# Altium footprint library PcbLibv0.5.PcbLib: 21 footprints (part 1 of 2)
Each footprint in its own frame and in the unit in brackets; x right, y up, seen from the top. Pads: shape width x height; smd on the part's side, far side on the other; paste and mask are expansions set on the pad; w line width, h text height; cw(c..) or ccw(c..) is an arc to the next point about the centre after c.
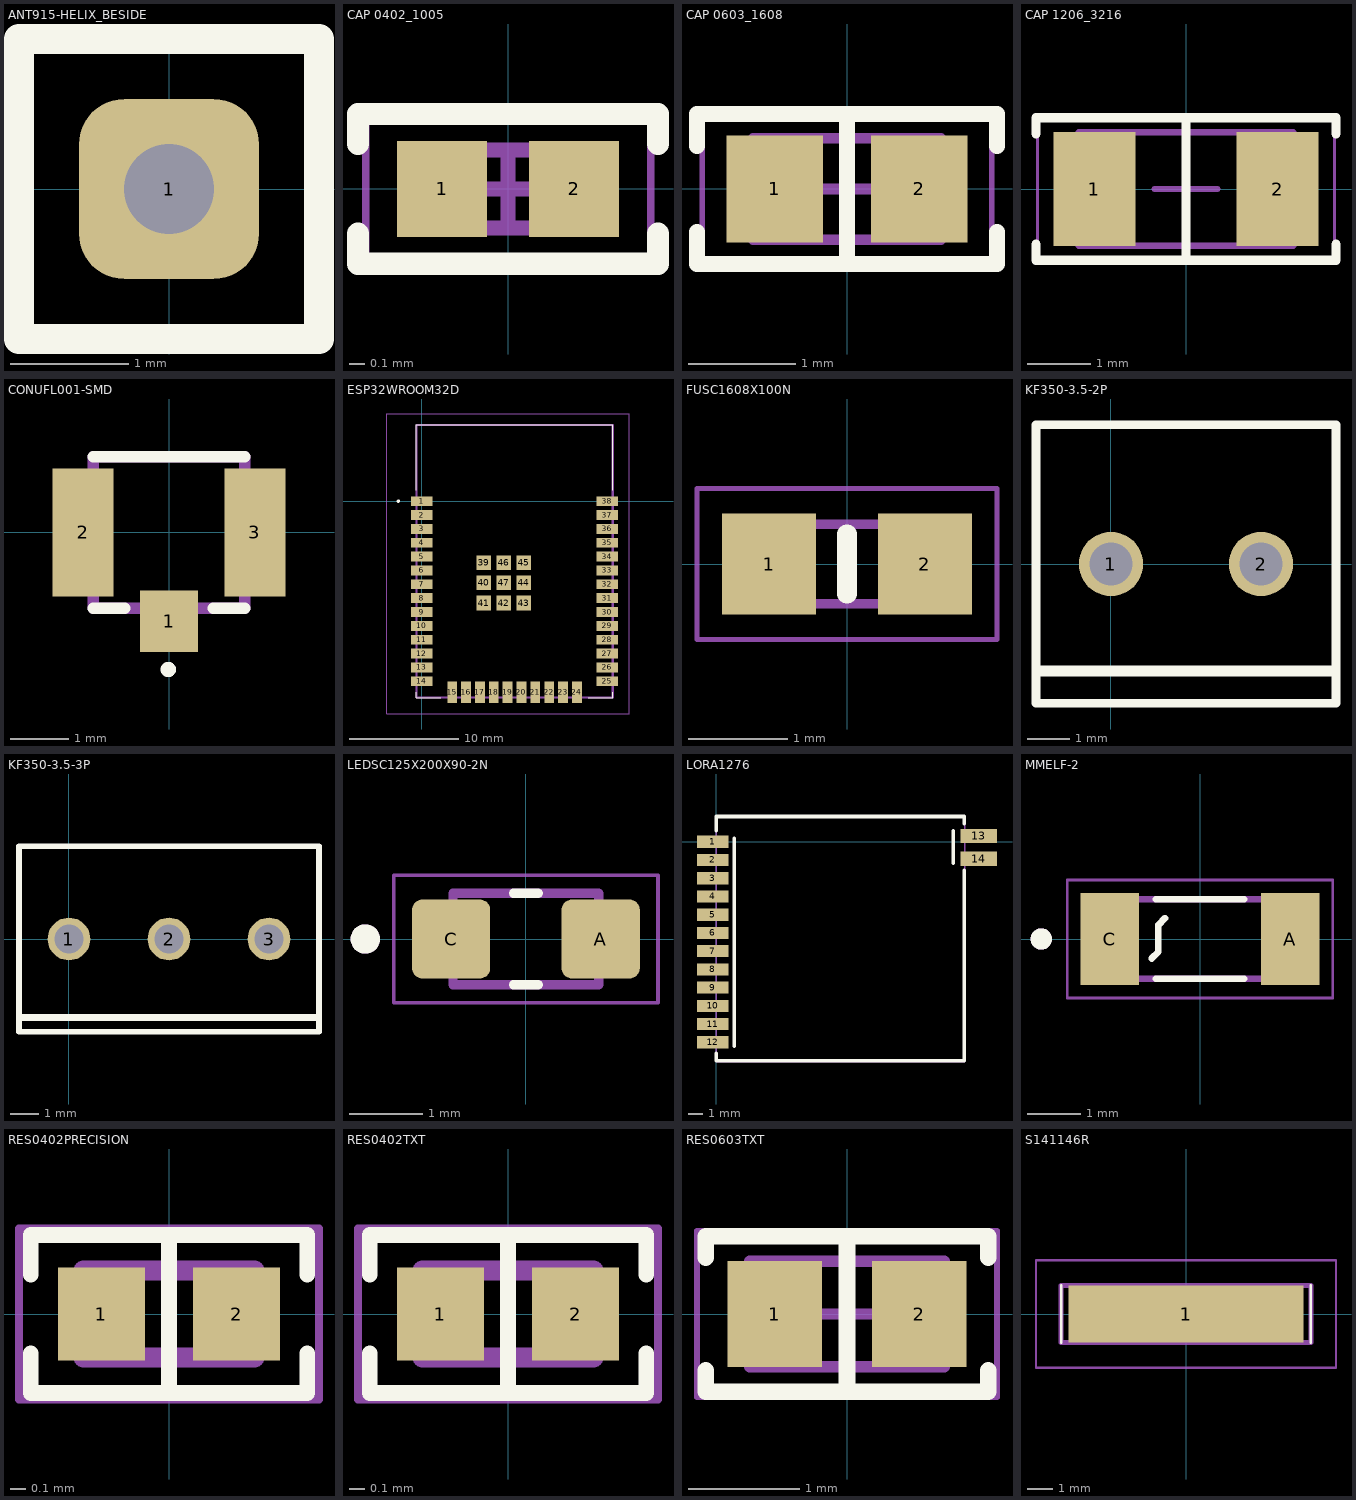
[diagram p0: the footprints below, top view; thin cyan lines are the x and y axes]

## ANT915-HELIX_BESIDE [mil] "Antena Helicoidal 915 MHz LoRa De Lado"
pads (1):
  rrect50% 60x60 hole 30: 1(0,0)
Top Overlay:
  lines w10: -50,-50 -50,50 50,50 50,-50 -50,-50
3D body "User Library-SW868-TH13.STEP": height 265.75, standoff -64.96, extent -163.02,-16 85.01,704.47

## CAP 0402_1005 [mm] "Chip Capacitor, 2-Leads, Body 1.02x0.51mm, IPC Medium Density"
height 0.52
pads (2):
  rect 0.6x0.64 smd: 1(-0.44,0) 2(0.44,0)
Top Overlay:
  lines w0.15: -1,-0.3 -1,-0.5 1,-0.5 1,-0.3 ; -1,0.3 -1,0.5 1,0.5 1,0.3
Mechanical 13:
  lines w0.1: -0.515,-0.26 0.515,-0.26 0.515,0.26 -0.515,0.26 -0.515,-0.26
Mechanical 15:
  lines w0.05: -0.95,-0.5 0.95,-0.5 0.95,0.5 -0.95,0.5 -0.95,-0.5
  lines w0.1: -0.26,0 0.26,0 ; 0,-0.26 0,0.26
3D body "Ceramic_Capacitor_0402_h20mil.step": height 0.49, standoff -0.02, extent -0.508,-0.254 0.508,0.254

## CAP 0603_1608 [mm] "Chip Capacitor, 2-Leads, Body 1.60x0.80mm, IPC Medium Density"
height 0.89
pads (2):
  rect 0.9x1 smd: 1(-0.675,0) 2(0.675,0)
Top Overlay:
  lines w0.15: -1.4,-0.4 -1.4,-0.7 1.4,-0.7 1.4,-0.4 ; -1.4,0.4 -1.4,0.7 1.4,0.7 1.4,0.4 ; 0,-0.7 0,0.7
Mechanical 13:
  lines w0.1: -0.875,-0.475 -0.875,0.475 0.875,0.475 0.875,-0.475 -0.875,-0.475
Mechanical 15:
  lines w0.05: -1.35,-0.75 -1.35,0.75 1.35,0.75 1.35,-0.75 -1.35,-0.75
  lines w0.1: -0.475,0 0.475,0 ; 0,-0.475 0,0.475
3D body "Ceramic_Capacitor_0603_h32mil.step": height 0.78, standoff -0.02, extent -0.8,-0.4 0.8,0.4

## CAP 1206_3216 [mm] "Chip Capacitor, 2-Leads, Body 3.25x1.60mm, IPC Medium Density"
height 1.6
pads (2):
  rect 1.3x1.8 smd: 1(-1.45,0) 2(1.45,0)
Top Overlay:
  lines w0.15: -2.375,-0.875 -2.375,-1.125 2.375,-1.125 2.375,-0.875 ; -2.375,0.875 -2.375,1.125 2.375,1.125 2.375,0.875 ; 0,-1.125 0,1.125
Mechanical 13:
  lines w0.1: -1.7,-0.9 -1.7,0.9 1.7,0.9 1.7,-0.9 -1.7,-0.9
Mechanical 15:
  lines w0.05: -2.35,-1.15 -2.35,1.15 2.35,1.15 2.35,-1.15 -2.35,-1.15
  lines w0.1: -0.5,0 0.5,0 ; 0,-0.5 0,0.5
3D body "Ceramic_Capacitor_1206_h63mil.step": height 1.61, standoff 0.01, extent -1.6,-0.8 1.6,0.8

## CONUFL001-SMD [mm]
pads (3):
  rect 1x1.05 smd: 1(0,-1.525)
  rect 1.05x2.2 smd: 2(-1.475,0) 3(1.475,0)
Top Overlay:
  circle w0.2: c-0.013,-2.353 r0.031
  lines w0.2: -1.3,-1.3 -0.761,-1.3 ; -1.3,1.3 1.3,1.3 ; 0.761,-1.3 1.3,-1.3
Mechanical 13:
  lines w0.2: -1.3,-1.3 -1.3,1.3 1.3,1.3 1.3,-1.3 -1.3,-1.3
3D body "CONUFL001-SMD-T.stp": height 1.25, standoff 0, extent -1.499,-1.505 1.499,1.594

## ESP32WROOM32D [mm]
pads (47):
  rect 2x0.9 smd: 1(0,0.01) 2(0,-1.26) 3(0,-2.53) 4(0,-3.8) 5(0,-5.07) 6(0,-6.34) 7(0,-7.61) 8(0,-8.88) 9(0,-10.15) 10(0,-11.42) 11(0,-12.69) 12(0,-13.96) 13(0,-15.23) 14(0,-16.5) 25(17,-16.5) 26(17,-15.23) 27(17,-13.96) 28(17,-12.69) 29(17,-11.42) 30(17,-10.15) 31(17,-8.88) 32(17,-7.61) 33(17,-6.34) 34(17,-5.07) 35(17,-3.8) 36(17,-2.53) 37(17,-1.26) 38(17,0.01)
  rect 0.9x2 smd: 15(2.785,-17.5) 16(4.055,-17.5) 17(5.325,-17.5) 18(6.595,-17.5) 19(7.865,-17.5) 20(9.135,-17.5) 21(10.405,-17.5) 22(11.675,-17.5) 23(12.945,-17.5) 24(14.215,-17.5)
  rect 1.33x1.33 smd: 39(5.665,-5.655) 40(5.665,-7.49) 41(5.665,-9.325) 42(7.5,-9.325) 43(9.335,-9.325) 44(9.335,-7.49) 45(9.335,-5.655) 46(7.5,-5.655) 47(7.5,-7.49)
Top Overlay:
  lines w0.1: -0.5,-17.5 -0.5,-18 1.75,-18 ; -0.5,1 -0.5,7 17.5,7 17.5,1 ; 15.25,-18 17.5,-18 17.5,-17.5
  lines w0.102: -0.5,-17.5 -0.5,-18 1.75,-18 ; -0.5,1 -0.5,7 17.5,7 17.5,1 ; 15.25,-18 17.5,-18 17.5,-17.5
  lines w0.2: -2.2,0.01 ccw(c-2.15,0.01) -2.1,0.01 ; -2.2,0.01 cw(c-2.15,0.01) -2.1,0.01 ; -2.2,0.01 ccw(c-2.15,0.01) -2.1,0.01
Mechanical 13:
  lines w0.2: -0.5,-18 17.5,-18 17.5,7 -0.5,7 -0.5,-18
Mechanical 15:
  lines w0.1: -3.2,-19.5 19,-19.5 19,8 -3.2,8 -3.2,-19.5
3D body "ESP32-WROOM-32D__4MB_.stp": height 3.1, standoff 0, extent -0.52,-18.01 17.48,7.49

## FUSC1608X100N [mm]
pads (2):
  rect 0.95x1.02 smd: 1(-0.785,0) 2(0.785,0)
Top Overlay:
  lines w0.2: 0,-0.3 0,0.3
Mechanical 13:
  lines w0.1: -0.8,-0.4 0.8,-0.4 0.8,0.4 -0.8,0.4 -0.8,-0.4
Mechanical 15:
  lines w0.05: -1.51,-0.76 1.51,-0.76 1.51,0.76 -1.51,0.76 -1.51,-0.76
3D body "SMD0603B010TF.stp": height 1, standoff 0, extent -0.8,-0.4 0.8,0.4

## KF350-3.5-2P [mm]
pads (2):
  round 1.5 hole 1: 1(0,0) 2(3.5,0)
Top Overlay:
  lines w0.2: -1.75,-3.25 -1.75,3.25 5.25,3.25 5.25,-3.25 -1.75,-3.25
  lines w0.254: -1.7,-2.5 5.2,-2.5
Mechanical 13:
  lines w0.1: -1.75,-3.25 5.25,-3.25 5.25,3.25 -1.75,3.25 -1.75,-3.25
Mechanical 15:
  lines w0.1: -1.75,-3.25 5.25,-3.25 5.25,3.25 -1.75,3.25 -1.75,-3.25
3D body "DG350-3.5-02P-12-00AH.STEP": height 8.4, standoff -3.5, extent -2.3,-3.4 5.7,3.4

## KF350-3.5-3P [mm]
pads (3):
  round 1.5 hole 1: 1(0,0) 2(3.5,0) 3(7,0)
Top Overlay:
  lines w0.2: -1.75,-3.25 -1.75,3.25 8.75,3.25 8.75,-3.25 -1.75,-3.25
  lines w0.254: -1.6,-2.75 8.7,-2.75
Mechanical 13:
  lines w0.1: -1.75,-3.25 8.75,-3.25 8.75,3.25 -1.75,3.25 -1.75,-3.25
Mechanical 15:
  lines w0.1: -1.75,-3.25 8.75,-3.25 8.75,3.25 -1.75,3.25 -1.75,-3.25
3D body "DG350-3.5-03P-12-00AH.STEP": height 8.4, standoff -3.5, extent -2.2,-3.4 9.3,3.4

## LEDSC125X200X90-2N [mm]
pads (2):
  rrect25% 1.07x1.08 smd: A(1.025,0) C(-1.025,0)
Top Overlay:
  circle w0.2: c-2.2,0 r0.1
  lines w0.127: -0.17,-0.625 0.17,-0.625 ; -0.17,0.625 0.17,0.625
Mechanical 13:
  circle w0.2: c-2.2,0 r0.1
  lines w0.127: -1,-0.625 -1,0.625 1,0.625 1,-0.625 -1,-0.625
Mechanical 15:
  lines w0.05: -1.81,-0.875 1.81,-0.875 1.81,0.875 -1.81,0.875 -1.81,-0.875
3D body "599-0110-007F.STEP": height 0.7, standoff 0, extent -1,-0.625 1,0.625

## LORA1276 [mil]
pads (14):
  rect 86x33.46 smd: 1(-10,0) 2(-10,-50) 3(-10,-100) 4(-10,-150) 5(-10,-200) 6(-10,-250) 7(-10,-300) 8(-10,-350) 9(-10,-400) 10(-10,-450) 11(-10,-500) 12(-10,-550)
  rect 100x39.37 smd: 13(719.29,15.75) 14(719.29,-47.24)
Top Overlay:
  lines w10: 0,-580.71 0,-600.39 679.13,-600.39 679.13,-78.74 ; 0,29.53 0,68.9 679.13,68.9 679.13,49.21 ; 49.21,-561.02 49.21,9.84 ; 649.61,-59.06 649.61,29.53
Mechanical 7:
  lines w5: 0,-602.36 0,66.93 681.1,66.93 681.1,-602.36 0,-602.36

## MMELF-2 [mm]
pads (2):
  rect 1.11x1.73 smd: A(1.705,0) C(-1.705,0)
Top Overlay:
  circle w0.2: c-3,0 r0.1
  lines w0.127: -0.914,-0.368 -0.787,-0.241 -0.787,0.14 -0.787,0.267 -0.66,0.394 ; -0.83,-0.75 0.83,-0.75 ; -0.83,0.75 0.83,0.75
Mechanical 13:
  circle w0.2: c-3,0 r0.1
  lines w0.127: -1.75,-0.75 -1.75,0.75 1.75,0.75 1.75,-0.75 -1.75,-0.75
Mechanical 15:
  lines w0.05: -2.51,-1.115 -2.51,1.115 2.51,1.115 2.51,-1.115 -2.51,-1.115
3D body "LL4148--3DModel-STEP-56544.STEP": height 1.47, standoff -0.03, extent -1.725,-0.75 1.725,0.75

## RES0402PRECISION [mm]
pads (2):
  rect 0.56x0.6 smd: 1(-0.435,0) 2(0.435,0)
Top Overlay:
  lines w0.102: -0.889,-0.254 -0.889,-0.508 0,-0.508 ; -0.889,0.254 -0.889,0.508 0.889,0.508 0.889,0.254 ; 0,0.508 0,-0.508 ; 0.889,-0.254 0.889,-0.508 0,-0.508
Mechanical 13:
  lines w0.127: -0.55,-0.28 0.55,-0.28 0.55,0.28 -0.55,0.28 -0.55,-0.28
Mechanical 15:
  lines w0.05: -0.965,-0.55 0.965,-0.55 0.965,0.55 -0.965,0.55 -0.965,-0.55
3D body "Resistor_0402_Ohm.step": height 0.34, standoff -0.02, extent -0.508,-0.254 0.508,0.254

## RES0402TXT [mm]
pads (2):
  rect 0.56x0.6 smd: 1(-0.435,0) 2(0.435,0)
Top Overlay:
  lines w0.102: -0.889,-0.254 -0.889,-0.508 0,-0.508 ; -0.889,0.254 -0.889,0.508 0.889,0.508 0.889,0.254 ; 0,0.508 0,-0.508 ; 0.889,-0.254 0.889,-0.508 0,-0.508
Mechanical 13:
  lines w0.127: -0.55,-0.28 0.55,-0.28 0.55,0.28 -0.55,0.28 -0.55,-0.28
Mechanical 15:
  lines w0.05: -0.965,-0.55 0.965,-0.55 0.965,0.55 -0.965,0.55 -0.965,-0.55
3D body "Resistor_0402_Text.step": height 0.34, standoff -0.02, extent -0.508,-0.254 0.508,0.254

## RES0603TXT [mm]
height 0.45
pads (2):
  rect 0.85x0.95 smd: 1(-0.65,0) 2(0.65,0)
Top Overlay:
  lines w0.15: -1.27,-0.508 -1.27,-0.7 1.27,-0.7 1.27,-0.508 ; -1.27,0.508 -1.27,0.7 1.27,0.7 1.27,0.508 ; 0,-0.7 0,0.7
Mechanical 13:
  lines w0.1: -0.875,-0.475 0.875,-0.475 0.875,0.475 -0.875,0.475 -0.875,-0.475
Mechanical 15:
  lines w0.05: -1.35,-0.75 1.35,-0.75 1.35,0.75 -1.35,0.75 -1.35,-0.75
  lines w0.1: -0.475,0 0.475,0 ; 0,-0.475 0,0.475
3D body "Resistor_0603_Text.step": height 0.44, standoff -0.02, extent -0.8,-0.4 0.8,0.4

## S141146R [mm]
pads (1):
  rect 9.4x2.28 smd: 1(0,0)
Top Overlay:
  lines w0.1: -5,-1.14 -5,1.14 ; 5,-1.14 5,1.14
Mechanical 13:
  lines w0.2: -5,-1.14 -5,1.14 5,1.14 5,-1.14 -5,-1.14
Mechanical 15:
  lines w0.1: -6,-2.14 -6,2.14 6,2.14 6,-2.14 -6,-2.14
3D body "S1411-46R.stp": height 3.75, standoff 0, extent -4.494,-1.14 4.494,1.14